# EAGLE library part 74HCT3G07DP-Q100H (library TAStm32_v4)
74HC(T)3G07-Q100 - Triple buffer with open-drain outputs@en-us Source: Datasheet <http://uk.rs-online.com/web/p/products/1532947P>
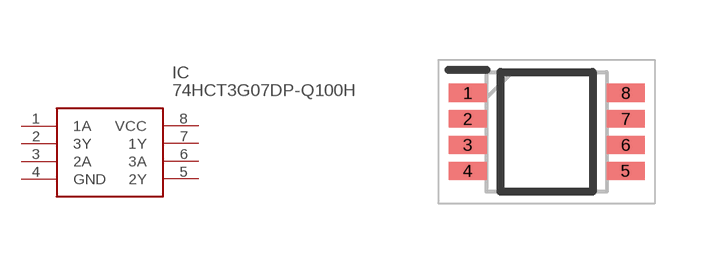
[diagram p4: symbol with the pads of SOP65P400X110-8N; footprint SOP65P400X110-8N]

Designator prefix IC

## 74HCT3G07DP-Q100H (DESCRIPTION: 74HC(T)3G07-Q100 - Triple buffer with open-drain outputs@en-us; HEIGHT: 1.1mm; MANUFACTURER_NAME: Nexperia; MANUFACTURER_PART_NUMBER: 74HCT3G07DP-Q100H; RS_PART_NUMBER: 1532947P; RS_PRICE-STOCK: http://uk.rs-online.com/web/p/products/1532947P)  [SOP65P400X110-8N]
1  1A
2  3Y
3  2A
4  GND
5  2Y
6  3A
7  1Y
8  VCC

## Footprint SOP65P400X110-8N (pad centres in mm)
SOT505-2
smd 0.95 x 0.45: 1 -1.975,0.975; 2 -1.975,0.325; 3 -1.975,-0.325; 4 -1.975,-0.975; 5 1.975,-0.975; 6 1.975,-0.325; 7 1.975,0.325; 8 1.975,0.975